# Altium schematic symbol library Current Sense.SchLib: 18 symbols
Pins are listed as number, name and electrical type; pins without a type are passive.

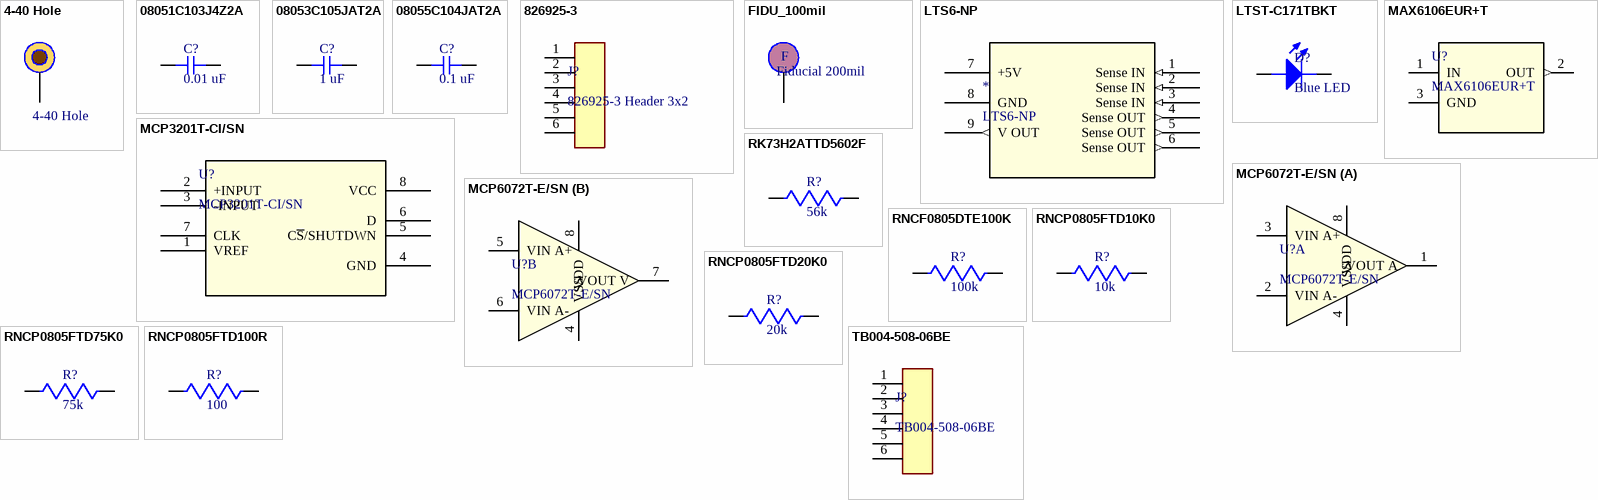
[diagram p0: symbols 4-40 Hole to TB004-508-06BE]

## 4-40 Hole
designator H?
footprint 4-40 Hole
pins: H

## 08051C103J4Z2A
designator C?, comment 0.01 uF
0805 0.01 uF 100 V ±5 % Tolerance X7R SMT Multilayer Ceramic Capacitor; Manufacturer: Kyocera AVX; Manufacturer Part Number: 08051C103J4Z2A; Capacitance: 10nF; Voltage Rating: 100V; Tolerance: 5%; Supplier 1: Digi-Key; Supplier Part Number 1: 478-9933-1-ND; RoHS: Yes; Category: Ceramic Capacitors; Stock 1: 228064; Pricing 1: 1=0.11000, 10=0.07500, 50=0.04240, 100=0.03510, 500=0.02464, 1000=0.02040 (USD); Mount: Surface Mount; Case/Package: 0805; Case Code (Metric): 2012; Case Code (Imperial): 0805; Min Operating Temperature: -55°C; Max Operating Temperature: 125°C; Packaging: Tape and Reel; Dielectric: X7R; Voltage Rating (DC): 100V; Features: Soft Termination; Length: 0.079inch; Width: 0.049inch; Thickness: 0.037inch; Ratings: AEC-Q200; RoHS Compliant: Yes; ComponentLink1URL: http://datasheets.avx.com/FlexitermMLCC.pdf?src-supplier=Digi-Key; ComponentLink1Description: http://datasheets.avx.com/FlexitermMLCC.pdf?src-supplier=Digi-Key
footprint C0805E (CHIP Capacitor, 2.0X1.3mm, 0805, EXPANDED PAD)
pins: 1, 2

## 08053C105JAT2A
designator C?, comment 1 uF
0805 1 uF 25 V ±5 % Tolerance X7R Surface Mount Multilayer Ceramic Capacitor; Manufacturer: Kyocera AVX; Manufacturer Part Number: 08053C105JAT2A; Capacitance: 1uF; Tolerance: 5%; Voltage Rating: 25V; Supplier 1: Digi-Key; Supplier Part Number 1: 478-10487-1-ND; RoHS: Yes; Category: Ceramic Capacitors; Stock 1: 90689; Pricing 1: 1=0.32000, 10=0.22200, 50=0.15560, 100=0.13330, 500=0.10000, 1000=0.08444 (USD); Mount: Surface Mount; Case/Package: 0805; Number of Pins: 2; Case Code (Metric): 2012; Case Code (Imperial): 0805; Contact Plating: Tin,Matte; Min Operating Temperature: -55°C; Max Operating Temperature: 125°C; Packaging: Tape and Reel; Package Quantity: 2000; Voltage Rating (DC): 25V; Dielectric: X7R; Termination: SMD/SMT; Construction: Flat; Series: -; Length: 2.01mm; Width: 0.049inch; Height: 1.4mm; Thickness: 0.037inch; Depth: 1.25mm; Radiation Hardening: No; Reach SVHC Compliant: Yes; Lead Free: Lead Free; RoHS Compliant: Yes; ComponentLink1URL: https://datasheet.ciiva.com/221/cx7r-221690.pdf?src-supplier=Digi-Key; ComponentLink1Description: https://datasheet.ciiva.com/221/cx7r-221690.pdf?src-supplier=Digi-Key; ComponentLink2URL: https://datasheet.ciiva.com/5419/cx7r-218113-5419770.pdf?src-supplier=Mouser; ComponentLink2Description: https://datasheet.ciiva.com/5419/cx7r-218113-5419770.pdf?src-supplier=Mouser; ComponentLink3URL: https://datasheet.ciiva.com/11499/cx7r-11499836.pdf?src-supplier=Avnet; ComponentLink3Description: https://datasheet.ciiva.com/11499/cx7r-11499836.pdf?src-supplier=Avnet; ComponentLink4URL: https://datasheet.ciiva.com/28586/1679506-28586091.pdf?src-supplier=Element14; ComponentLink4Description: https://datasheet.ciiva.com/28586/1679506-28586091.pdf?src-supplier=Element14
footprint C0805E (CHIP Capacitor, 2.0X1.3mm, 0805, EXPANDED PAD)
pins: 1, 2

## 08055C104JAT2A
designator C?, comment 0.1 uF
0805 100nF 50 V ±5 % Tolerance X7R Surface Mount Multilayer Ceramic Capacitor; Manufacturer: Kyocera AVX; Manufacturer Part Number: 08055C104JAT2A; Tolerance: 5%; Voltage Rating: 50V; Dissipation Factor: 2.5%; Insulation Resistance: 100GR; Supplier 1: Digi-Key; Supplier Part Number 1: 478-3352-1-ND; RoHS: Yes; Category: Ceramic Capacitors; Stock 1: 734747; Pricing 1: 1=0.12000, 10=0.08500, 50=0.04820, 100=0.03990, 500=0.02800, 1000=0.02318 (USD); Mount: Surface Mount,PCB; Case/Package: 0805; Number of Pins: 2; Case Code (Metric): 2012; Case Code (Imperial): 0805; Contact Plating: Tin,Matte; Dielectric Material: Ceramic; Min Operating Temperature: -55°C; Max Operating Temperature: 125°C; Capacitance: 100nF; Dielectric: X7R; Packaging: Tape and Reel; Package Quantity: 4000; Voltage Rating (DC): 50V; Termination: SMD/SMT; Voltage: 50V; Series: -; Construction: Flat; Length: 2.01mm; Width: 1.25mm; Height: 0.94mm; Depth: 1.25mm; Thickness: 0.037inch; Radiation Hardening: No; Reach SVHC Compliant: Yes; Lead Free: Lead Free; RoHS Compliant: Yes; ComponentLink1URL: https://datasheet.ciiva.com/27054/1929381-27054902.pdf?src-supplier=Jameco; ComponentLink1Description: https://datasheet.ciiva.com/27054/1929381-27054902.pdf?src-supplier=Jameco; ComponentLink2URL: https://datasheet.ciiva.com/16199/cx5r-16199661.pdf?src-supplier=Future+Electronics; ComponentLink2Description: https://datasheet.ciiva.com/16199/cx5r-16199661.pdf?src-supplier=Future+Electronics; ComponentLink3URL: https://datasheet.ciiva.com/15212/getdatasheetpartid-110198-15212571.pdf?src-supplier=Verical; ComponentLink3Description: https://datasheet.ciiva.com/15212/getdatasheetpartid-110198-15212571.pdf?src-supplier=Verical; ComponentLink4URL: https://datasheet.ciiva.com/7812/cx7r-7812074.pdf?src-supplier=Element14; ComponentLink4Description: https://datasheet.ciiva.com/7812/cx7r-7812074.pdf?src-supplier=Element14; ComponentLink5URL: https://datasheet.ciiva.com/7812/cx7r-7812075.pdf?src-supplier=Element14; ComponentLink5Description: https://datasheet.ciiva.com/7812/cx7r-7812075.pdf?src-supplier=Element14; ComponentLink6URL: https://datasheet.ciiva.com/7812/cx7r-7812076.pdf?src-supplier=Element14; ComponentLink6Description: https://datasheet.ciiva.com/7812/cx7r-7812076.pdf?src-supplier=Element14; ComponentLink7URL: https://datasheet.ciiva.com/28683/cx7r-28683529.pdf?src-supplier=Element14; ComponentLink7Description: https://datasheet.ciiva.com/28683/cx7r-28683529.pdf?src-supplier=Element14; ComponentLink8URL: https://datasheet.ciiva.com/150/cx7r-150564.pdf?src-supplier=Digi-Key; ComponentLink8Description: https://datasheet.ciiva.com/150/cx7r-150564.pdf?src-supplier=Digi-Key; ComponentLink9URL: https://datasheet.ciiva.com/150/cx7r-150563.pdf?src-supplier=Digi-Key; ComponentLink9Description: https://datasheet.ciiva.com/150/cx7r-150563.pdf?src-supplier=Digi-Key; ComponentLink10URL: https://datasheet.ciiva.com/150/cx7r-150565.pdf?src-supplier=Digi-Key; ComponentLink10Description: https://datasheet.ciiva.com/150/cx7r-150565.pdf?src-supplier=Digi-Key; ComponentLink11URL: https://datasheet.ciiva.com/14590/70001075-14590237.pdf?src-supplier=Allied+Electronics; ComponentLink11Description: https://datasheet.ciiva.com/14590/70001075-14590237.pdf?src-supplier=Allied+Electronics
footprint C0805E (CHIP Capacitor, 2.0X1.3mm, 0805, EXPANDED PAD)
pins: 1, 2

## 826925-3
designator J?, comment 826925-3 Header 3x2
Conn Unshrouded Header HDR 6 POS 2.54mm Solder ST Thru-Hole Automotive Carton; Manufacturer: TE Connectivity; Number of Poles: 6; Current Rating: 3A; Connector Type: Plug,Header,Pin; Gender: Male; Board Standoff: No (Without); High Speed Serial Data Connector: No; PCB Mount Retention: Without; Contact Current Rating: 5A; Contact Post Length: 0.1259inch; Pin Length: 6.7mm; Plating Thickness: 2um; Supplier 1: Digi-Key; Supplier Part Number 1: A106478-ND; Manufacturer Part Number: 826925-3; RoHS: Yes; Category: Connectors; Stock 1: 9795; Pricing 1: 1=0.79000, 10=0.67100, 100=0.60220, 500=0.49268, 1000=0.43794, 5000=0.38319, 10000=0.36403 (USD); Mount: Through Hole; Contact Plating: Tin; Contact Material: Bronze; Color: Green; Housing Color: Green; Housing Material: PBT; Insulation Material: PBT; Contact Shape: Square; Contact Finish - Mating: TIN; Insulation Color: Green; Min Operating Temperature: -65°C; Max Operating Temperature: 105°C; Packaging: Carton; Number of Rows: 2; Contact Gender: Male; Package Quantity: 800; Number of Positions: 6; Termination: Through Hole; Number of Contacts: 6; Orientation: Straight; Contact Protection: No (Without); Gasket: No (Without); High Temperature Housing: No; Keyed: No; Mating Alignment: No (Without); Mating Connector Lock: No (Without); Selectively Loaded: No (Without); Stabilizers: No (Without); Strain Relief: No (Without); Series: AMPMODU MOD II; Contact Type: Male Pin; Fastening Type: Pull; Lead Pitch: 2.54mm; Pitch: 2.54mm; Row Spacing: 2.54mm; Contact Mating Length: 6.7mm; Depth: 5mm; Radiation Hardening: No; Reach SVHC Compliant: Yes; Flammability Rating: UL94 V-0; ELV: Compliant; Lead Free: Lead Free; RoHS Compliant: Yes; ComponentLink1URL: https://datasheet.ciiva.com/11749/0900766b80d7c469-11749304.pdf?src-supplier=RSComponents; ComponentLink1Description: https://datasheet.ciiva.com/11749/0900766b80d7c469-11749304.pdf?src-supplier=RSComponents; ComponentLink2URL: https://datasheet.ciiva.com/29369/001094812-da-01-en-stiftleiste-2-reihig-0-0826925-3-29369737.pdf?src-supplier=Conrad; ComponentLink2Description: https://datasheet.ciiva.com/29369/001094812-da-01-en-stiftleiste-2-reihig-0-0826925-3-29369737.pdf?src-supplier=Conrad; ComponentLink3URL: https://datasheet.ciiva.com/6856/eng-cd-826629-aa-basefilename-6856442.pdf?src-supplier=Digi-Key; ComponentLink3Description: https://datasheet.ciiva.com/6856/eng-cd-826629-aa-basefilename-6856442.pdf?src-supplier=Digi-Key; ComponentLink4URL: https://datasheet.ciiva.com/16403/eng-cd-826925-p-16403547.pdf?src-supplier=Future+Electronics; ComponentLink4Description: https://datasheet.ciiva.com/16403/eng-cd-826925-p-16403547.pdf?src-supplier=Future+Electronics; ComponentLink5URL: https://datasheet.ciiva.com/7800/38081-7800235.pdf?src-supplier=Element14; ComponentLink5Description: https://datasheet.ciiva.com/7800/38081-7800235.pdf?src-supplier=Element14
footprint TE_826925-3
pins: 1, 2, 3, 4, 5, 6

## FIDU_100mil
designator F?, comment Fiducial 200mil
footprint FIDU_100mil
pins: F

## LTS6-NP
designator *
Sensor Current Hall 6A Ac/dc; Manufacturer: LEM; Frequency: 200kHz; Max Supply Voltage (DC): 5.25V; Operating Supply Voltage: 5V; Output Voltage: 2.5V; Number of Channels: 1; Response Time: 0.4us; Polarity: Bidirectional; Min Supply Voltage (DC): 4.75V; Linearity: 0.1%; Accuracy: 0.2%; Sensitivity: 104.16mV/A; Wire/Cable Diameter: 3.2mm; Supplier 1: Digi-Key; Supplier Part Number 1: 398-1000-ND; Manufacturer Part Number: LTS6-NP; RoHS: Yes; Category: Current Sensors; Stock 1: 150; Pricing 1: 1=18.62000, 5=18.24000, 10=15.20000, 25=14.06000, 50=13.68000, 100=11.78000 (USD); Mount: Through Hole,PCB; Min Operating Temperature: -40°C; Max Operating Temperature: 85°C; Package Quantity: 50; Packaging: Bulk; Current Sensing: 6A; Series: LTS; Current Rating: 6A; Height: 23.5mm; Reach SVHC Compliant: Yes; Lead Free: Lead Free; RoHS Compliant: Yes; ComponentLink1URL: https://datasheet.ciiva.com/2812/lts206-np-2812480.pdf?src-supplier=Digi-Key; ComponentLink1Description: https://datasheet.ciiva.com/2812/lts206-np-2812480.pdf?src-supplier=Digi-Key; ComponentLink2URL: https://datasheet.ciiva.com/3327/07696305-3327466.pdf?src-supplier=Distrelec; ComponentLink2Description: https://datasheet.ciiva.com/3327/07696305-3327466.pdf?src-supplier=Distrelec
footprint LTS 6-NP_LEM
pins: 1 Sense IN (in), 2 Sense IN (in), 3 Sense IN (in), 4 Sense OUT (out), 5 Sense OUT (out), 6 Sense OUT (out), 7 +5V (power), 8 GND (power), 9 V OUT (out)

## LTST-C171TBKT
designator D?, comment Blue LED
LED BLUE CLEAR 0805 SMD; Manufacturer: Vishay Lite-On; Manufacturer Part Number: LTST-C171TBKT; Lens Color: Colorless; Forward Current: 20mA; Forward Voltage: 3.8V; Luminous Intensity: 180mcd; Viewing Angle: 130°; Lens Style: Diffused,Colorless,Rectangular,Clear; Dominant Wavelength: 475nm; Wavelength: 468nm; Number of LEDs: 1; Power Dissipation: 76mW; Reverse Voltage: 5V; Supplier 1: Digi-Key; Supplier Part Number 1: 160-1645-1-ND; RoHS: Yes; Category: LEDs; Stock 1: 373553; Pricing 1: 1=0.32000, 10=0.25100, 100=0.11280, 500=0.10192, 1000=0.08372 (USD); Mount: Surface Mount; Case/Package: 0805; Number of Pins: 2; Color: Blue; Case Code (Metric): 2012; Case Code (Imperial): 0805; Min Operating Temperature: -20°C; Max Operating Temperature: 80°C; Illumination Color: Blue; Packaging: Tape and Reel; Package Quantity: 1; Test Current: 20mA; Lens Transparency: Clear; Series: CHIPLED 0805; Number of Elements: 1; Length: 2mm; Width: 1.25mm; Height: 0.8mm; Depth: 1.25mm; Radiation Hardening: No; Lead Free: Lead Free; RoHS Compliant: Yes; ComponentLink1URL: https://datasheet.ciiva.com/2110/ltst-c171tbkt-2110304.pdf?src-supplier=Digi-Key; ComponentLink1Description: https://datasheet.ciiva.com/2110/ltst-c171tbkt-2110304.pdf?src-supplier=Digi-Key; ComponentLink2URL: https://datasheet.ciiva.com/11774/0900766b80dc029b-11774836.pdf?src-supplier=RSComponents; ComponentLink2Description: https://datasheet.ciiva.com/11774/0900766b80dc029b-11774836.pdf?src-supplier=RSComponents; ComponentLink3URL: https://datasheet.ciiva.com/12403/lite-on-ltst-c171tbkt-187246-12403800.pdf?src-supplier=Mouser; ComponentLink3Description: https://datasheet.ciiva.com/12403/lite-on-ltst-c171tbkt-187246-12403800.pdf?src-supplier=Mouser; ComponentLink4URL: https://datasheet.ciiva.com/15118/getdatasheetpartid-225754-15118121.pdf?src-supplier=Verical; ComponentLink4Description: https://datasheet.ciiva.com/15118/getdatasheetpartid-225754-15118121.pdf?src-supplier=Verical; ComponentLink5URL: https://datasheet.ciiva.com/2110/s-110-ltst-c171tbkt0630-2110305.pdf?src-supplier=Digi-Key; ComponentLink5Description: https://datasheet.ciiva.com/2110/s-110-ltst-c171tbkt0630-2110305.pdf?src-supplier=Digi-Key; ComponentLink6URL: https://datasheet.ciiva.com/16444/lite-onltst-c171tbkt-16444780.pdf?src-supplier=Future+Electronics; ComponentLink6Description: https://datasheet.ciiva.com/16444/lite-onltst-c171tbkt-16444780.pdf?src-supplier=Future+Electronics
footprint LED 0805
footprint LED 0603 Green
pins: 1, 2

## MAX6106EUR+T
designator U?
MAX6106 Series 2.056 V ±0.4 % Surface Mount Series Voltage Reference - SOT-23; Manufacturer: Maxim; Output Voltage: 2.048V; Max Input Voltage: 12.6V; Max Output Current: 5mA; Min Input Voltage: 2.5V; Tolerance: 0.4%; Max Supply Current: 125uA; Temperature Coefficient: 75ppm/°C; Max Output Voltage: 2.056V; Reference Type: Series,Fixed; Output Type: Fixed; Supplier 1: Mouser; Supplier Part Number 1: 700-MAX6106EURT; Manufacturer Part Number: MAX6106EUR+T; RoHS: Yes; Category: Voltage References; Stock 1: 14807; Pricing 1: 1=1.47000, 10=1.33000, 50=1.25000, 100=1.07000, 1000=0.75000, 10000=0.72400 (USD); Mount: Surface Mount; Case/Package: SOT-23-3; Number of Pins: 3; Min Operating Temperature: -40°C; Max Operating Temperature: 85°C; Packaging: Tape and Reel; Package Quantity: 1; Min Output Voltage: 2.048V; Output Current: 5mA; Operating Supply Current: 125uA; Reference Voltage: 2.048V; Series: -; Length: 3.04mm; Width: 1.4mm; Height: 1.02mm; Radiation Hardening: No; RoHS Compliant: Yes; Lead Free: Lead Free; ComponentLink1URL: https://datasheet.ciiva.com/4908/max6100-max6107-87505-4908032.pdf?src-supplier=Mouser; ComponentLink1Description: https://datasheet.ciiva.com/4908/max6100-max6107-87505-4908032.pdf?src-supplier=Mouser; ComponentLink2URL: https://datasheet.ciiva.com/30476/0900766b811dea62-30476381.pdf?src-supplier=RSComponents; ComponentLink2Description: https://datasheet.ciiva.com/30476/0900766b811dea62-30476381.pdf?src-supplier=RSComponents; ComponentLink3URL: https://datasheet.ciiva.com/14198/max6100-max6107-14198841.pdf?src-supplier=Avnet; ComponentLink3Description: https://datasheet.ciiva.com/14198/max6100-max6107-14198841.pdf?src-supplier=Avnet; ComponentLink4URL: https://datasheet.ciiva.com/2008/max6100-max6107-2008213.pdf?src-supplier=Digi-Key; ComponentLink4Description: https://datasheet.ciiva.com/2008/max6100-max6107-2008213.pdf?src-supplier=Digi-Key
footprint 21-0051H_MXM
pins: 1 IN (power), 2 OUT (out), 3 GND (power)

## MCP3201T-CI/SN
designator U?
1-Channel Single ADC SAR 100ksps 12-bit Serial Automotive 8-Pin SOIC N T/R; Manufacturer: Microchip; Interface: SPI,Serial,3-WIRE; Number of Channels: 1; Operating Supply Voltage: 5V; Min Supply Voltage: 2.7V; Max Supply Voltage: 5.5V; Number of Bits: 12; Sampling Rate: 100KS/s; Resolution: 12b; Polarity: Unipolar; Integral Nonlinearity (INL): 2LSB; Full Scale Error: 5LSB; Differential Nonlinearity: 1LSB; Input Type: SINGLE-ENDED; Supplier 1: Digi-Key; Supplier Part Number 1: MCP3201T-CI/SNCT-ND; Manufacturer Part Number: MCP3201T-CI/SN; RoHS: Yes; Category: Analog to Digital Converters (ADCs); Stock 1: 15019; Pricing 1: 1=3.04000, 25=2.54400, 100=2.31080 (USD); Mount: Surface Mount; Case/Package: SOIC N; Number of Pins: 8; Contact Plating: Tin,Matte; Min Operating Temperature: -40°C; Max Operating Temperature: 85°C; Packaging: Tape and Reel; Package Quantity: 1; Number of Inputs: 1; Number of A/D Converters: 1; Number of Converters: 1; Number of Analog Inputs: 1; Number of Elements: 1; Conversion Rate: 100KS/s; Supply Type: Single; Radiation Hardening: No; Lead Free: Lead Free; RoHS Compliant: Yes; ComponentLink1URL: https://datasheet.ciiva.com/26923/getdatasheetpartid-786492-26923007.pdf?src-supplier=Verical; ComponentLink1Description: https://datasheet.ciiva.com/26923/getdatasheetpartid-786492-26923007.pdf?src-supplier=Verical; ComponentLink2URL: https://datasheet.ciiva.com/16389/filehandler-aspxddocname-en011279-16389286.pdf?src-supplier=Future+Electronics; ComponentLink2Description: https://datasheet.ciiva.com/16389/filehandler-aspxddocname-en011279-16389286.pdf?src-supplier=Future+Electronics; ComponentLink3URL: https://datasheet.ciiva.com/6666/21290f-6666382.pdf?src-supplier=Digi-Key; ComponentLink3Description: https://datasheet.ciiva.com/6666/21290f-6666382.pdf?src-supplier=Digi-Key
footprint SOIC8-N_MC_MCH
pins: 1 VREF, 2 +INPUT, 3 -INPUT, 4 GND, 5 C~{S}/SHUTDWN, 6 D, 7 CLK, 8 VCC

## MCP6072T-E/SN
designator U?
Op Amp Dual Precision Amplifier R-R I/O 6V Automotive 8-Pin SOIC N T/R; Manufacturer: Microchip; Slew Rate: 0.5V/µs; Number of Circuits: 2; Gain Bandwidth Product: 1.2MHz; Input Bias Current: 100pA; Input Offset Voltage (Vos): 150uV; Operating Supply Current: 110uA; Common Mode Rejection Ratio: 72dB; Min Supply Voltage: 1.8V; Output Current: 28mA; Voltage Gain: 115dB; Power Supply Rejection Ratio (PSRR): 70dB; Amplifier Type: GENERAL PURPOSE; Supplier 1: Digi-Key; Supplier Part Number 1: MCP6072T-E/SNCT-ND; Manufacturer Part Number: MCP6072T-E/SN; RoHS: Yes; Category: Amplifiers - Op Amps, Buffer, Instrumentation; Stock 1: 94538; Pricing 1: 1=1.19000, 25=0.99640, 100=0.91500 (USD); Mount: Surface Mount; Case/Package: SOIC; Number of Pins: 8; Min Operating Temperature: -40°C; Max Operating Temperature: 125°C; Packaging: Tape and Reel; Unity Gain Bandwidth Product: 1.2MHz; Max Supply Voltage: 6V; Package Quantity: 3300; Number of Channels: 2; Nominal Supply Current: 110uA; Output Current per Channel: 28mA; Number of Elements: 2; Series: -; Supply Current: 110uA; Technology: CMOS; Input Offset Voltage-Max: 150uV; Slew Rate-Nom: 0.5V/µs; Radiation Hardening: No; Lead Free: Lead Free; RoHS Compliant: Yes; ComponentLink1URL: https://datasheet.ciiva.com/11711/22142-b-mcp6071-11711098.pdf?src-supplier=Avnet; ComponentLink1Description: https://datasheet.ciiva.com/11711/22142-b-mcp6071-11711098.pdf?src-supplier=Avnet; ComponentLink2URL: https://datasheet.ciiva.com/16450/filehandler-aspxddocname-en540513-16450534.pdf?src-supplier=Future+Electronics; ComponentLink2Description: https://datasheet.ciiva.com/16450/filehandler-aspxddocname-en540513-16450534.pdf?src-supplier=Future+Electronics; ComponentLink3URL: https://datasheet.ciiva.com/1793/22142-b-mcp6071-1793649.pdf?src-supplier=Digi-Key; ComponentLink3Description: https://datasheet.ciiva.com/1793/22142-b-mcp6071-1793649.pdf?src-supplier=Digi-Key
footprint SOIC8-N_MC_MCH
part A pins: 1 VOUT A, 2 VIN A-, 3 VIN A+, 4 VSS (power), 8 VDD (power)
part B pins: 4 VSS (power), 5 VIN A+, 6 VIN A-, 7 VOUT V, 8 VDD (power)

## RK73H2ATTD5602F
designator R?, comment 56k
Res Thick Film 0805 56K Ohm 1% 0.25W(1/4W) ±100ppm/C Pad SMD Automotive T/R; Manufacturer: KOA Speer; Manufacturer Part Number: RK73H2ATTD5602F; Resistance: 56kR; Power Rating: 125mW; Voltage Rating: 150V; Temperature Coefficient: 100ppm/°C; Supplier 1: Digi-Key; Supplier Part Number 1: 2019-RK73H2ATTD5602FCT-ND; RoHS: Yes; Category: Chip SMD Resistors; Stock 1: 74990; Pricing 1: 1=0.10000, 10=0.03800, 100=0.01530, 1000=0.00688, 2500=0.00597 (USD); Case/Package: 0805; Number of Pins: 2; Case Code (Imperial): 0805; Case Code (Metric): 2012; Min Operating Temperature: -55°C; Max Operating Temperature: 155°C; Tolerance: 1%; Packaging: Tape and Reel; Package Quantity: 5000; Resistor Type: Thick Film; Termination: SMD/SMT; Series: RK73H; Construction: Rectangular; Resistance Tolerance: 1%; Length: 2mm; Width: 1.25mm; Height: 0.5mm; Depth: 1.25mm; Military Standard: Not; Lead Free: Lead Free; RoHS Compliant: Yes; ComponentLink1URL: https://datasheet.ciiva.com/7706/549017-7706126.pdf?src-supplier=Element14; ComponentLink1Description: https://datasheet.ciiva.com/7706/549017-7706126.pdf?src-supplier=Element14
footprint R0805E (CHIP RESISTOR 1/8 WATT ,2.0X1.3mm, 0805, EXPANDED PAD)
pins: 1, 2

## RNCF0805DTE100K
designator R?, comment 100k
Res Thin Film 0805 100K Ohm 0.5% 1/10W ±25ppm/°C Molded SMD SMD Paper T/R; Manufacturer: Stackpole Electronics; Manufacturer Part Number: RNCF0805DTE100K; Resistance: 100kR; Max Power Dissipation: 125mW; Supplier 1: Digi-Key; Supplier Part Number 1: 738-RNCF0805DTE100KCT-ND; RoHS: Yes; Category: Chip SMD Resistors; Stock 1: 8148; Pricing 1: 1=0.14000, 10=0.11600, 100=0.04520, 500=0.02730, 1000=0.01890, 2500=0.01732 (USD); Mount: Surface Mount; Case/Package: 0805; Contact Plating: Tin,Matte; Min Operating Temperature: -55°C; Max Operating Temperature: 155°C; Packaging: Tape and Reel; Tolerance: 0.5%; Resistor Type: Thin Film; Package Quantity: 5000; Number of Terminations: 2; Temperature Coefficient: 25ppm/°C; Features: Moisture Resistant; Series: RNCF; Length: 0.079inch; Width: 0.049inch; Height: 0.026inch; Radiation Hardening: No; RoHS Compliant: Yes; ComponentLink1URL: https://www.seielect.com/Catalog/SEI-rncf.pdf?src-supplier=Avnet; ComponentLink1Description: https://www.seielect.com/Catalog/SEI-rncf.pdf?src-supplier=Avnet; ComponentLink2URL: https://www.seielect.com/Catalog/SEI-RNCF.pdf?src-supplier=Digi-Key; ComponentLink2Description: https://www.seielect.com/Catalog/SEI-RNCF.pdf?src-supplier=Digi-Key
footprint R0805E (CHIP RESISTOR 1/8 WATT ,2.0X1.3mm, 0805, EXPANDED PAD)
pins: 1, 2

## RNCP0805FTD10K0
designator R?, comment 10k
Res Thin Film 0805 10K Ohm 1% 1/4W ±100ppm/°C Molded SMD Paper T/R; Manufacturer: Stackpole Electronics; Manufacturer Part Number: RNCP0805FTD10K0; Resistance: 10kR; Max Power Dissipation: 250mW; Supplier 1: Digi-Key; Supplier Part Number 1: RNCP0805FTD10K0CT-ND; RoHS: Yes; Category: Chip SMD Resistors; Stock 1: 596473; Pricing 1: 1=0.10000, 10=0.07300, 100=0.02970, 500=0.01814, 1000=0.01336, 2500=0.01159 (USD); Mount: Surface Mount; Case/Package: 0805; Case Code (Metric): 2012; Case Code (Imperial): 0805; Min Operating Temperature: -55°C; Max Operating Temperature: 155°C; Tolerance: 1%; Packaging: Tape and Reel; Resistor Type: Thin Film; Number of Terminations: 2; Temperature Coefficient: 100ppm/°C; Features: Moisture Resistant,Anti-Sulfur; Series: RNCP; Length: 0.079inch; Width: 0.049inch; Height: 0.024inch; Lead Free: Lead Free; RoHS Compliant: Yes; ComponentLink1URL: https://www.seielect.com/catalog/SEI-Packaging.pdf?src-supplier=Digi-Key; ComponentLink1Description: https://www.seielect.com/catalog/SEI-Packaging.pdf?src-supplier=Digi-Key
footprint R0805E (CHIP RESISTOR 1/8 WATT ,2.0X1.3mm, 0805, EXPANDED PAD)
pins: 1, 2

## RNCP0805FTD20K0
designator R?, comment 20k
Res Thin Film 0805 20K Ohm 1% 0.25W(1/4W) ±100ppm/C Sulfur Resistant Pad SMD T/R; Manufacturer: Stackpole Electronics; Manufacturer Part Number: RNCP0805FTD20K0; Resistance: 20kR; Max Power Dissipation: 250mW; Temperature Coefficient: 100ppm/°C; Supplier 1: Digi-Key; Supplier Part Number 1: RNCP0805FTD20K0CT-ND; RoHS: Yes; Category: Chip SMD Resistors; Stock 1: 159169; Pricing 1: 1=0.10000, 10=0.07300, 100=0.02970, 500=0.01814, 1000=0.01336, 2500=0.01159 (USD); Mount: Surface Mount; Case/Package: 0805; Case Code (Metric): 2012; Case Code (Imperial): 0805; Min Operating Temperature: -55°C; Max Operating Temperature: 155°C; Tolerance: 1%; Packaging: Tape and Reel; Resistor Type: Thin Film; Number of Terminations: 2; Features: Moisture Resistant,Anti-Sulfur; Series: RNCP; Length: 0.079inch; Width: 0.049inch; Height: 0.024inch; Lead Free: Lead Free; RoHS Compliant: Yes; ComponentLink1URL: https://www.seielect.com/catalog/SEI-Packaging.pdf?src-supplier=Digi-Key; ComponentLink1Description: https://www.seielect.com/catalog/SEI-Packaging.pdf?src-supplier=Digi-Key; ComponentLink2URL: http://www.seielect.com/Catalog/SEI-rncp.pdf?src-supplier=Digi-Key; ComponentLink2Description: http://www.seielect.com/Catalog/SEI-rncp.pdf?src-supplier=Digi-Key
footprint R0805E (CHIP RESISTOR 1/8 WATT ,2.0X1.3mm, 0805, EXPANDED PAD)
pins: 1, 2

## RNCP0805FTD75K0
designator R?, comment 75k
Res Thin Film 0805 75K Ohm 1% 0.25W(1/4W) ±100ppm/C Sulfur Resistant Pad SMD T/R; Manufacturer: Stackpole Electronics; Manufacturer Part Number: RNCP0805FTD75K0; Resistance: 75kR; Max Power Dissipation: 250mW; Temperature Coefficient: 100ppm/°C; Supplier 1: Digi-Key; Supplier Part Number 1: RNCP0805FTD75K0CT-ND; RoHS: Yes; Category: Chip SMD Resistors; Stock 1: 28880; Pricing 1: 1=0.10000, 10=0.07300, 100=0.02970, 500=0.01814, 1000=0.01336, 2500=0.01159 (USD); Mount: Surface Mount; Case/Package: 0805; Case Code (Metric): 2012; Case Code (Imperial): 0805; Min Operating Temperature: -55°C; Max Operating Temperature: 155°C; Packaging: Tape and Reel; Resistor Type: Thin Film; Number of Terminations: 2; Tolerance: 1%; Features: Moisture Resistant,Anti-Sulfur; Series: RNCP; Length: 0.079inch; Width: 0.049inch; Height: 0.024inch; RoHS Compliant: Yes; ComponentLink1URL: http://www.seielect.com/Catalog/SEI-rncp.pdf?src-supplier=Digi-Key; ComponentLink1Description: http://www.seielect.com/Catalog/SEI-rncp.pdf?src-supplier=Digi-Key
footprint R0805E (CHIP RESISTOR 1/8 WATT ,2.0X1.3mm, 0805, EXPANDED PAD)
pins: 1, 2

## RNCP0805FTD100R
designator R?, comment 100
Res Thin Film 0805 100 Ohm 1% 0.25W(1/4W) ±100ppm/C Sulfur Resistant Pad SMD T/R; Manufacturer: Stackpole Electronics; Manufacturer Part Number: RNCP0805FTD100R; Resistance: 100R; Max Power Dissipation: 250mW; Temperature Coefficient: 100ppm/°C; Supplier 1: Digi-Key; Supplier Part Number 1: RNCP0805FTD100RCT-ND; RoHS: Yes; Category: Chip SMD Resistors; Stock 1: 461793; Pricing 1: 1=0.10000, 10=0.07300, 100=0.02970, 500=0.01814, 1000=0.01336, 2500=0.01159 (USD); Mount: Surface Mount; Case/Package: 0805; Case Code (Metric): 2012; Case Code (Imperial): 0805; Min Operating Temperature: -55°C; Max Operating Temperature: 155°C; Tolerance: 1%; Packaging: Tape and Reel; Resistor Type: Thin Film; Number of Terminations: 2; Features: Moisture Resistant,Anti-Sulfur; Series: RNCP; Length: 0.079inch; Width: 0.049inch; Height: 0.024inch; Lead Free: Lead Free; RoHS Compliant: Yes; ComponentLink1URL: http://www.seielect.com/Catalog/SEI-rncp.pdf?src-supplier=Digi-Key; ComponentLink1Description: http://www.seielect.com/Catalog/SEI-rncp.pdf?src-supplier=Digi-Key; ComponentLink2URL: https://www.seielect.com/catalog/SEI-Packaging.pdf?src-supplier=Digi-Key; ComponentLink2Description: https://www.seielect.com/catalog/SEI-Packaging.pdf?src-supplier=Digi-Key
footprint R0805E (CHIP RESISTOR 1/8 WATT ,2.0X1.3mm, 0805, EXPANDED PAD)
pins: 1, 2

## TB004-508-06BE
designator J?
2~24 Poles, Screw Type, Horizontal, 5.08 Pitch, 24~12 (AWG), Terminal Block Connector; Manufacturer: CUI; Supplier 1: Digi-Key; Supplier Part Number 1: 102-6183-ND; Manufacturer Part Number: TB004-508-06BE; RoHS: Yes
footprint CUI_TB004-508-06BE
pins: 1, 2, 3, 4, 5, 6